# Altium schematic symbol library EMK107B7105KA-T.SchLib: 1 symbol
Pins are listed as number, name and electrical type; pins without a type are passive.

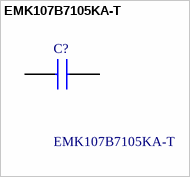
[diagram p0: symbol EMK107B7105KA-T]

## EMK107B7105KA-T
designator C?
Ceramic Capacitor 0603 16V 1uF; Manufacturer_Name: TAIYO YUDEN; Geometry.Height: 0.9mm; Manufacturer_Part_Number: EMK107B7105KA-T; Mouser Part Number: 963-EMK107B7105KA-T; Mouser Price/Stock: https://www.mouser.co.uk/ProductDetail/TAIYO-YUDEN/EMK107B7105KA-T?qs=I6KAKw0tg2zS1zj87Lm%2FxQ%3D%3D; Arrow Part Number: *; Arrow Price/Stock: *; Datasheet Link: https://componentsearchengine.com/Datasheets/1/EMK107B7105KA-T.pdf
footprint CAPC1608X90N
pins: 1, 2